# Altium schematic symbol library Conn_40pin.SchLib: 1 symbol
Pins are listed as number, name and electrical type; pins without a type are passive.

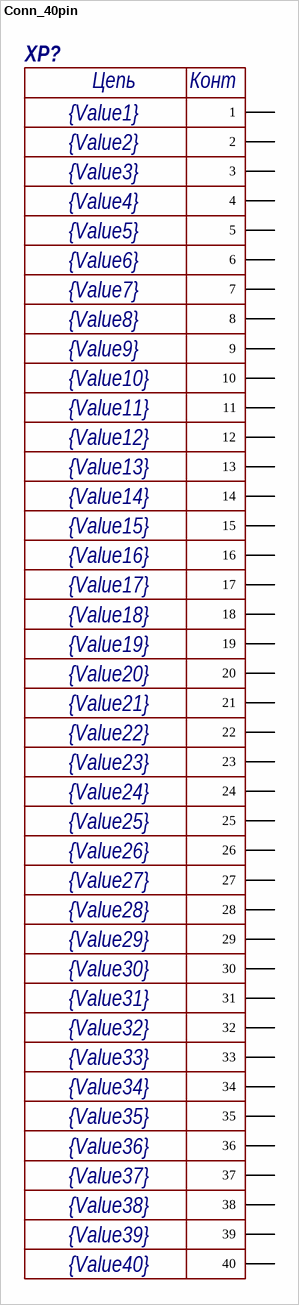
[diagram p0: symbol Conn_40pin]

## Conn_40pin
designator XP?  Value17: {Value17}  Value40: {Value40}  Value39: {Value39}  Value38: {Value38}  Value37: {Value37}  Value36: {Value36}  Value35: {Value35}  Value34: {Value34}  Value33: {Value33}  Value32: {Value32}  Value31: {Value31}  Value30: {Value30}  Value29: {Value29}  Value28: {Value28}  Value27: {Value27}  Value26: {Value26}  Value25: {Value25}  Value24: {Value24}  Value23: {Value23}  Value22: {Value22}  Value21: {Value21}  Value20: {Value20}  Value19: {Value19}  Value18: {Value18}  Value16: {Value16}  Value15: {Value15}  Value14: {Value14}  Value13: {Value13}  Value12: {Value12}  Value11: {Value11}  Value10: {Value10}  Value9: {Value9}  Value8: {Value8}  Value7: {Value7}  Value6: {Value6}  Value5: {Value5}  Value4: {Value4}  Value3: {Value3}  Value2: {Value2}  Value1: {Value1}
pins: 1, 2, 3, 4, 5, 6, 7, 8, 9, 10, 11, 12, 13, 14, 15, 16, 17, 18, 19, 20, 21, 22, 23, 24, 25, 26, 27, 28, 29, 30, 31, 32, 33, 34, 35, 36, 37, 38, 39, 40
text: Цепь; Конт